# Altium footprint library Capacitor_THT.PcbLib: 7 footprints
Each footprint in its own frame and in the unit in brackets; x right, y up, seen from the top. Pads: shape width x height; smd on the part's side, far side on the other; paste and mask are expansions set on the pad; w line width, h text height; cw(c..) or ccw(c..) is an arc to the next point about the centre after c.
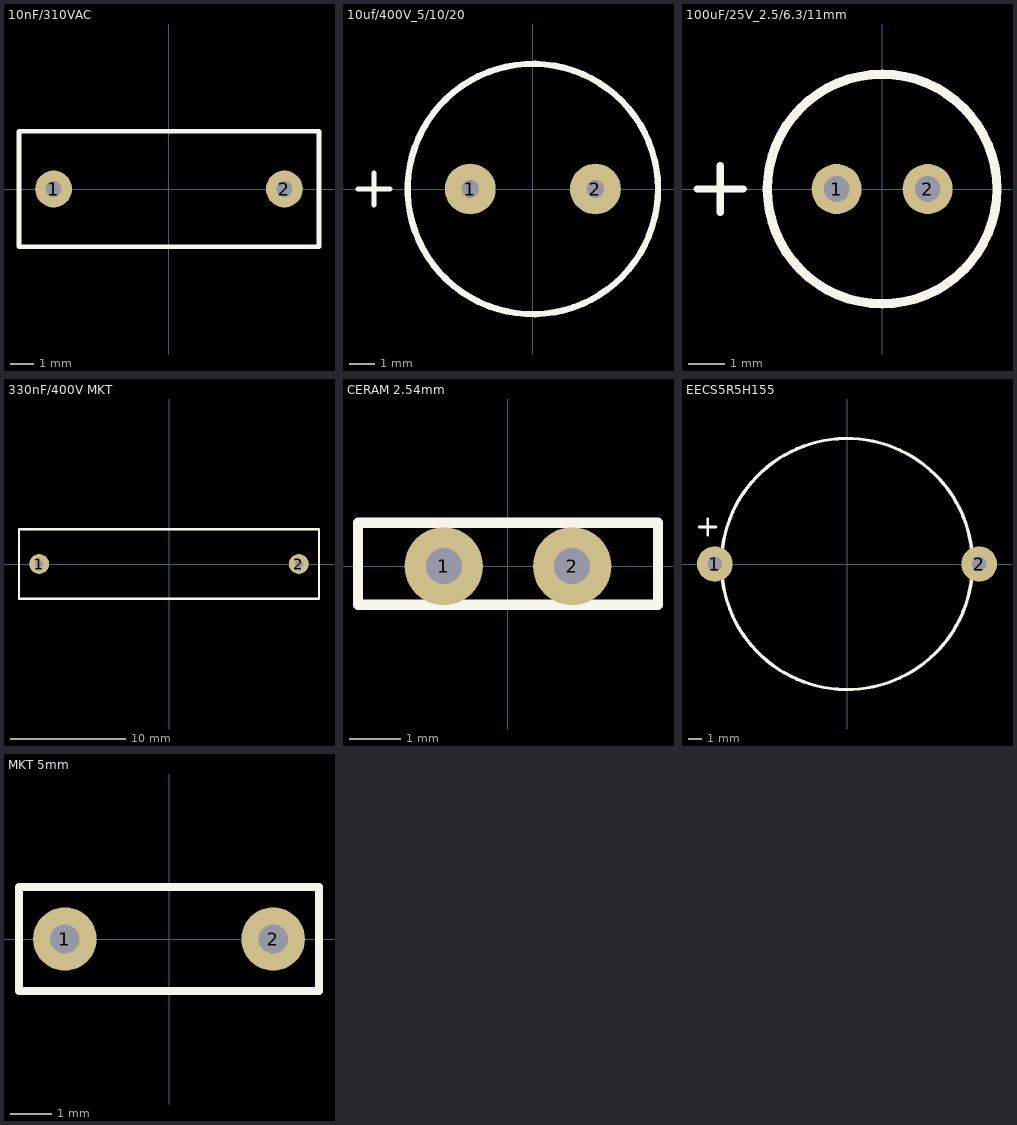
[diagram p0: the footprints below, top view; thin cyan lines are the x and y axes]

## 10nF/310VAC [mm]
height 11
pads (2):
  round 1.6 hole 0.7: 1(-5,0) 2(5,0)
Top Overlay:
  lines w0.2: -6.5,-2.5 -6.5,2.5 6.5,2.5 6.5,-2.5 -6.5,-2.5
Mechanical 1:
  lines w0.125: -6.5,-2.5 6.5,-2.5
3D body: height 11, standoff 0, extent -6.5,-2.5 6.5,2.5
3D body: height 1, standoff -1, extent -5.5,-0.5 -4.5,0.5
3D body: height 1, standoff -1, extent 4.5,-0.5 5.5,0.5

## 10uf/400V_5/10/20 [mm]
height 20
pads (2):
  round 2.032 hole 0.7: 1(-2.5,0) 2(2.5,0)
Top Overlay:
  circle w0.254: c0,0 r5
  lines w0.2: -6.985,0 -5.715,0 ; -6.35,-0.635 -6.35,0.635
3D body: height 20, standoff -3.3, extent -5,-5 5.002,5

## 100uF/25V_2.5/6.3/11mm [mm]
height 11
pads (2):
  round 1.372 hole 0.7: 1(-1.25,0) 2(1.25,0)
Top Overlay:
  circle w0.254: c0,0 r3.15
  lines w0.2: -5.08,0 -3.81,0 ; -4.445,-0.635 -4.445,0.635
3D body: height 11, standoff -19, extent -3.125,-3.15 3.175,3.15

## 330nF/400V MKT [mm]
height 6.5
pads (2):
  round 1.727 hole 0.7: 1(-11.25,0) 2(11.25,0)
Top Overlay:
  lines w0.2: -13,-3 -13,3 13,3 13,-3 -13,-3
3D body: height 16, standoff -2, extent -13,-3.01 13,3

## CERAM 2.54mm [mm]
pads (2):
  round 1.524 hole 0.7: 1(-1.25,0) 2(1.25,0)
Top Overlay:
  lines w0.2: -2.92,-0.75 2.921,-0.75 2.921,0.848 1.101,0.848 -0.93,0.848 -2.92,0.848 -2.92,-0.75
3D body: height 5.92, standoff -2, extent -2.92,-0.848 2.921,0.848

## EECS5R5H155 [mm] "1,5F; 5,5VDC; O20,5x6,5mm"
pads (2):
  round 2.7 hole 1.1: 1(-10,0) 2(10,0)
Top Overlay:
  circle w0.254: c0,0 r9.5
  lines w0.2: -11.18,2.8 -9.91,2.8 ; -10.545,2.165 -10.545,3.435
3D body: height 0, standoff -3.5, extent -10,-0.5 -9.8,0.5
3D body: height 0.2, standoff 0, extent -10,-0.5 -1.5,0.5
3D body: height 6.2, standoff 6, extent 1.5,-0.5 10,0.5
3D body: height 6.2, standoff -3.5, extent 9.9,-0.5 10.1,0.5
3D body: height 5.7, standoff 0.5, extent -9.425,-9.481 9.5,9.481
3D body: height 6, standoff 0.3, extent -7.937,-7.984 8,7.984

## MKT 5mm [mm]
height 6.5
pads (2):
  round 1.524 hole 0.7: 1(-2.5,0) 2(2.5,0)
Top Overlay:
  lines w0.2: -3.6,-1.25 3.6,-1.25 3.6,1.25 -3.6,1.25 -3.6,-1.25
3D body: height 6.5, standoff -3, extent -3.6,-1.25 3.6,1.25